# Altium footprint library HEADER_M_2x3_2.54.PcbLib: 1 footprints
Each footprint in its own frame and in the unit in brackets; x right, y up, seen from the top. Pads: shape width x height; smd on the part's side, far side on the other; paste and mask are expansions set on the pad; w line width, h text height; cw(c..) or ccw(c..) is an arc to the next point about the centre after c.
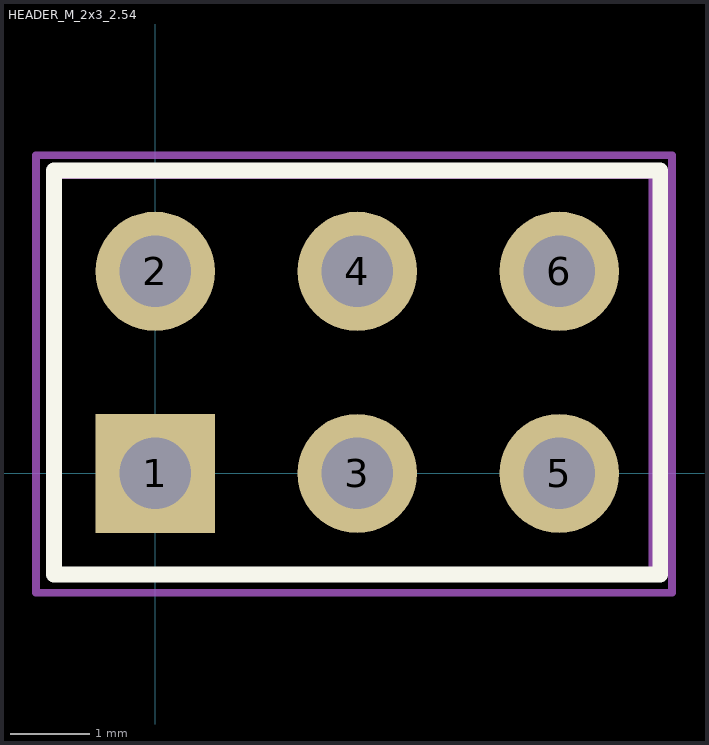
[diagram p0: the footprint, top view; thin cyan lines are the x and y axes]

## HEADER_M_2x3_2.54 [mm] "Connector; Header; 3x2 Position"
pads (6):
  rect 1.5x1.5 hole 0.9: 1(0,0)
  round 1.5 hole 0.9: 2(0,2.54) 3(2.54,0) 4(2.54,2.54) 5(5.08,0) 6(5.08,2.54)
Top Overlay:
  lines w0.2: 1.482,-1.27 6.35,-1.27 ; 6.35,-1.27 -1.27,-1.27 -1.27,3.81 6.35,3.81 6.35,-1.27
Top Assembly:
  lines w0.1: -1.25,-1.25 -1.25,3.75 ; -1.25,-1.25 -1.25,3.75 ; -1.25,-1.25 6.25,-1.25 6.25,3.75 -1.25,3.75
Top Courtyard:
  lines w0.1: -1.5,-1.5 6.5,-1.5 6.5,4 -1.5,4 -1.5,-1.5
3D body "User Library-2x3 Header.step": height 8.5, standoff -3, extent -1.27,-1.23 6.35,3.81